# Altium schematic symbol library EGB220.SchLib: 1 symbol
Pins are listed as number, name and electrical type; pins without a type are passive.

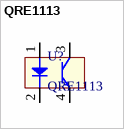
[diagram p0: symbol QRE1113]

## QRE1113
designator U?
footprint QRE1113GR (Miniature Reflective Object Sensor)
pins: 1 0, 2, 3, 4